# Altium integrated library B2B-ZR-SM4-TF.IntLib: 1 symbol
Pins are listed as number, name and electrical type; pins without a type are passive.

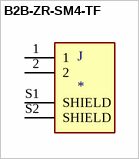
[diagram p0: symbol B2B-ZR-SM4-TF]

## B2B-ZR-SM4-TF
designator J
Connector Header Surface Mount 2 position 0.059 _1.50mm_; MP: B2B-ZR-SM4-TF; MF: JST Sales; Package: None; Value: *; Availability: Unavailable; Price: None; SnapEDA_Link: https://www.snapeda.com/parts/B2B-ZR-SM4-TF/JST%20Sales%20America%20Inc./view-part/547299/?ref=snap
footprint JST_B2B-ZR-SM4-TF
pins: 1, 2, S1 SHIELD, S2 SHIELD